# EAGLE library part TLW-115-06-G-S (library SAMTEC-Txx_By_element14_Batch_1)
CONNECTOR HEADER, 15 WAY, 1ROW
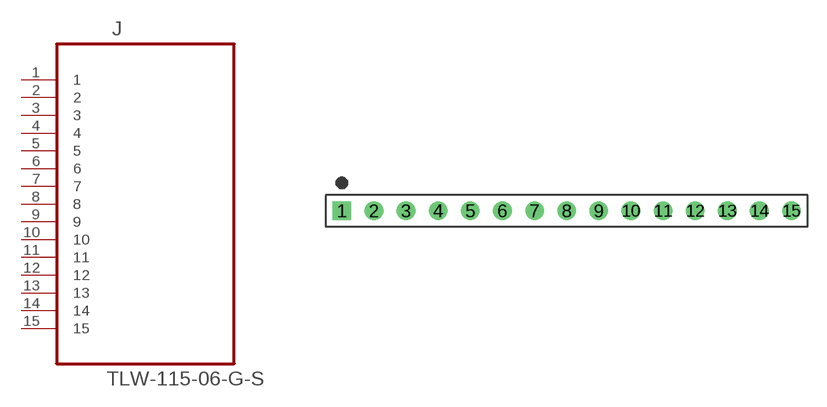
[diagram p217: symbol with the pads of SAMTEC_TLW-115-06-G-S; footprint SAMTEC_TLW-115-06-G-S]

Designator prefix J

## TLW-115-06-G-S (MPN: TLW-115-06-G-S; OC_FARNELL: -; OC_NEWARK: 12P0480; PACKAGE: CONN HEADER 15 POS .100 inch; SUPPLIER: SAMTEC)  [SAMTEC_TLW-115-06-G-S]
1  1  pas
2  2  pas
3  3  pas
4  4  pas
5  5  pas
6  6  pas
7  7  pas
8  8  pas
9  9  pas
10  10  pas
11  11  pas
12  12  pas
13  13  pas
14  14  pas
15  15  pas

## Footprint SAMTEC_TLW-115-06-G-S (pad centres in mm)
drill 0.965 square: 1 -35.56,0
drill 0.965: 2 -33.02,0; 3 -30.48,0; 4 -27.94,0; 5 -25.4,0; 6 -22.86,0; 7 -20.32,0; 8 -17.78,0; 9 -15.24,0; 10 -12.7,0; 11 -10.16,0; 12 -7.62,0; 13 -5.08,0; 14 -2.54,0; 15 0,0